# EAGLE library part SW_IS-1250 (library akita)
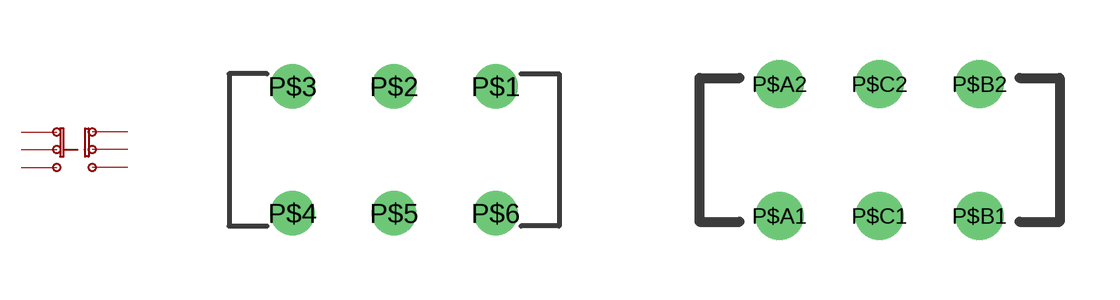
[diagram p30: symbol with the pads of SW_IS-1250; footprints SW_IS-1250, SW_IS2235]

Designator prefix SW

## SW_IS-1250IS1250  [SW_IS-1250]
P$1  P$A1
P$2  P$C1
P$3  P$B1
P$4  P$B2
P$5  P$C2
P$6  P$A2

## SW_IS-1250IS2235  [SW_IS2235]
P$A1  P$A1
P$A2  P$A2
P$B1  P$B1
P$B2  P$B2
P$C1  P$C1
P$C2  P$C2

## Footprint SW_IS-1250 (pad centres in mm)
drill 0.6: P$1 2.54,1.587; P$2 0,1.587; P$3 -2.54,1.587; P$4 -2.54,-1.587; P$5 0,-1.587; P$6 2.54,-1.587

## Footprint SW_IS2235 (pad centres in mm)
Slide SW, IS-2235-G, Akizuki
drill 0.7: P$A1 -2.5,-1.65; P$A2 -2.5,1.65; P$B1 2.5,-1.65; P$B2 2.5,1.65; P$C1 0,-1.65; P$C2 0,1.65